# EAGLE library part M32C/83(100P6Q-A) (library renesas_mcu)
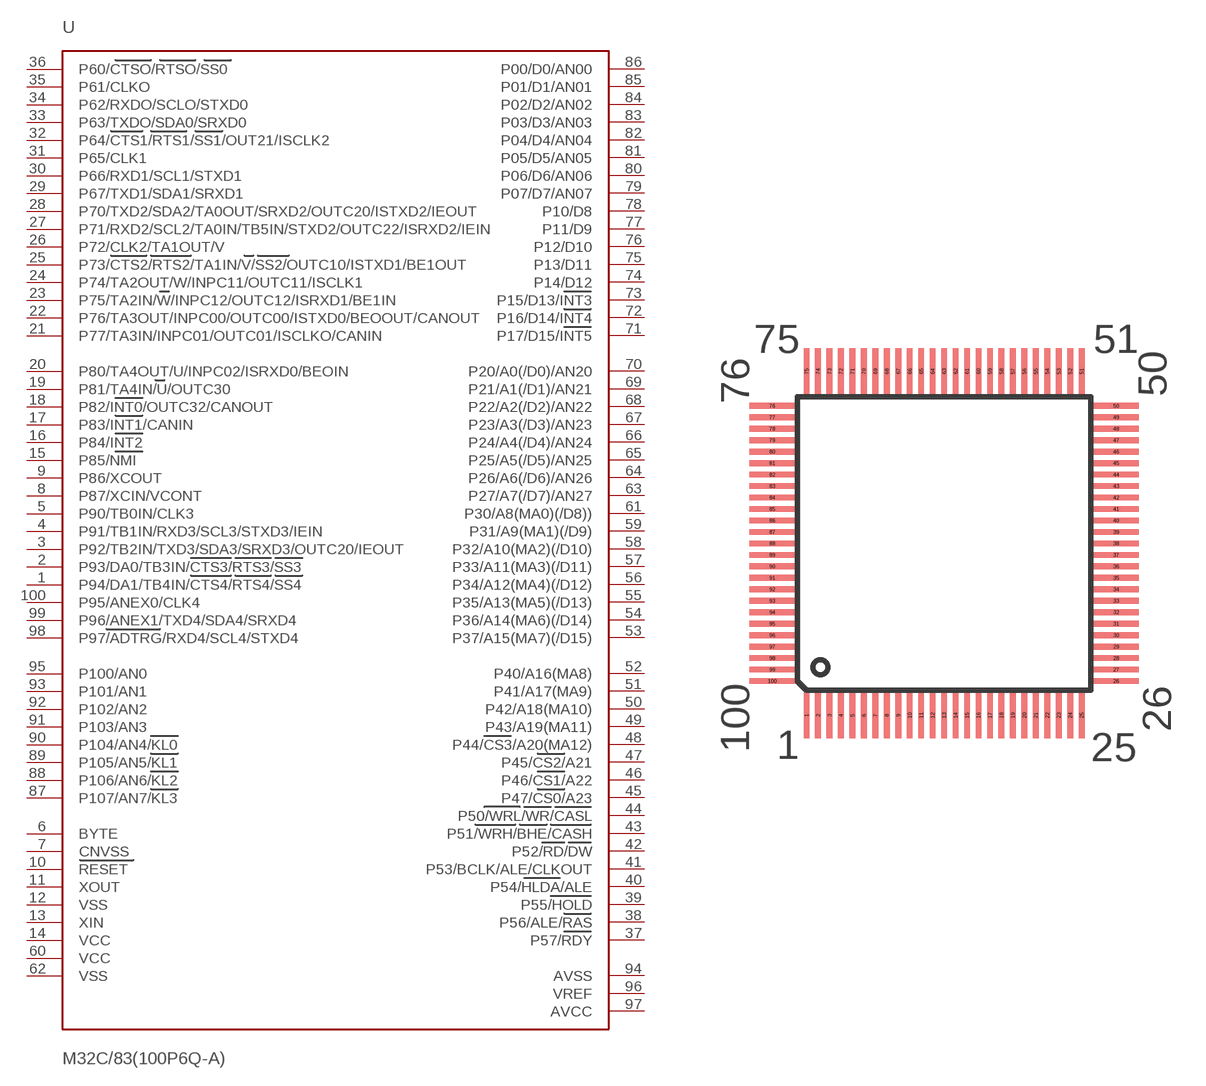
[diagram p10: symbol with the pads of 100P6Q-A; footprint 100P6Q-A]

Designator prefix -

## M32C/83(100P6Q-A)1  [100P6Q-A]
1  P94/DA1/TB4IN/CTS4/RTS4/SS4
2  P93/DA0/TB3IN/CTS3/RTS3/SS3
3  P92/TB2IN/TXD3/SDA3/SRXD3/OUTC20/IEOUT
4  P91/TB1IN/RXD3/SCL3/STXD3/IEIN
5  P90/TB0IN/CLK3
6  BYTE  in
7  CNVSS  in
8  P87/XCIN/VCONT
9  P86/XCOUT
10  RESET  in
11  XOUT  out
12  VSS  pwr
13  XIN  in
14  VCC  pwr
15  P85/NMI  in
16  P84/INT2
17  P83/INT1/CANIN
18  P82/INT0/OUTC32/CANOUT
19  P81/TA4IN/U/OUTC30
20  P80/TA4OUT/U/INPC02/ISRXD0/BEOIN
21  P77/TA3IN/INPC01/OUTC01/ISCLKO/CANIN
22  P76/TA3OUT/INPC00/OUTC00/ISTXD0/BEOOUT/CANOUT
23  P75/TA2IN/W/INPC12/OUTC12/ISRXD1/BE1IN
24  P74/TA2OUT/W/INPC11/OUTC11/ISCLK1
25  P73/CTS2/RTS2/TA1IN/V/SS2/OUTC10/ISTXD1/BE1OUT
26  P72/CLK2/TA1OUT/V
27  P71/RXD2/SCL2/TA0IN/TB5IN/STXD2/OUTC22/ISRXD2/IEIN
28  P70/TXD2/SDA2/TA0OUT/SRXD2/OUTC20/ISTXD2/IEOUT
29  P67/TXD1/SDA1/SRXD1
30  P66/RXD1/SCL1/STXD1
31  P65/CLK1
32  P64/CTS1/RTS1/SS1/OUT21/ISCLK2
33  P63/TXDO/SDA0/SRXD0
34  P62/RXDO/SCLO/STXD0
35  P61/CLKO
36  P60/CTSO/RTSO/SS0
37  P57/RDY
38  P56/ALE/RAS
39  P55/HOLD
40  P54/HLDA/ALE
41  P53/BCLK/ALE/CLKOUT
42  P52/RD/DW
43  P51/WRH/BHE/CASH
44  P50/WRL/WR/CASL
45  P47/CS0/A23
46  P46/CS1/A22
47  P45/CS2/A21
48  P44/CS3/A20(MA12)
49  P43/A19(MA11)
50  P42/A18(MA10)
51  P41/A17(MA9)
52  P40/A16(MA8)
53  P37/A15(MA7)(/D15)
54  P36/A14(MA6)(/D14)
55  P35/A13(MA5)(/D13)
56  P34/A12(MA4)(/D12)
57  P33/A11(MA3)(/D11)
58  P32/A10(MA2)(/D10)
59  P31/A9(MA1)(/D9)
60  VCC  pwr
61  P30/A8(MA0)(/D8))
62  VSS  pwr
63  P27/A7(/D7)/AN27
64  P26/A6(/D6)/AN26
65  P25/A5(/D5)/AN25
66  P24/A4(/D4)/AN24
67  P23/A3(/D3)/AN23
68  P22/A2(/D2)/AN22
69  P21/A1(/D1)/AN21
70  P20/A0(/D0)/AN20
71  P17/D15/INT5
72  P16/D14/INT4
73  P15/D13/INT3
74  P14/D12
75  P13/D11
76  P12/D10
77  P11/D9
78  P10/D8
79  P07/D7/AN07
80  P06/D6/AN06
81  P05/D5/AN05
82  P04/D4/AN04
83  P03/D3/AN03
84  P02/D2/AN02
85  P01/D1/AN01
86  P00/D0/AN00
87  P107/AN7/KL3
88  P106/AN6/KL2
89  P105/AN5/KL1
90  P104/AN4/KL0
91  P103/AN3
92  P102/AN2
93  P101/AN1
94  AVSS  in
95  P100/AN0
96  VREF  in
97  AVCC  in
98  P97/ADTRG/RXD4/SCL4/STXD4
99  P96/ANEX1/TXD4/SDA4/SRXD4
100  P95/ANEX0/CLK4

## Footprint 100P6Q-A (pad centres in mm)
smd 0.25 x 2: 1 -6,-7.5; 2 -5.5,-7.5; 3 -5,-7.5; 4 -4.5,-7.5; 5 -4,-7.5; 6 -3.5,-7.5; 7 -3,-7.5; 8 -2.5,-7.5; 9 -2,-7.5; 10 -1.5,-7.5; 11 -1,-7.5; 12 -0.5,-7.5; 13 0,-7.5; 14 0.5,-7.5; 15 1,-7.5; 16 1.5,-7.5; 17 2,-7.5; 18 2.5,-7.5; 19 3,-7.5; 20 3.5,-7.5; 21 4,-7.5; 22 4.5,-7.5; 23 5,-7.5; 24 5.5,-7.5; 25 6,-7.5; 51 6,7.5; 52 5.5,7.5; 53 5,7.5; 54 4.5,7.5; 55 4,7.5; 56 3.5,7.5; 57 3,7.5; 58 2.5,7.5; 59 2,7.5; 60 1.5,7.5; 61 1,7.5; 62 0.5,7.5; 63 0,7.5; 64 -0.5,7.5; 65 -1,7.5; 66 -1.5,7.5; 67 -2,7.5; 68 -2.5,7.5; 69 -3,7.5; 70 -3.5,7.5; 71 -4,7.5; 72 -4.5,7.5; 73 -5,7.5; 74 -5.5,7.5; 75 -6,7.5
smd 2 x 0.25: 26 7.5,-6; 27 7.5,-5.5; 28 7.5,-5; 29 7.5,-4.5; 30 7.5,-4; 31 7.5,-3.5; 32 7.5,-3; 33 7.5,-2.5; 34 7.5,-2; 35 7.5,-1.5; 36 7.5,-1; 37 7.5,-0.5; 38 7.5,0; 39 7.5,0.5; 40 7.5,1; 41 7.5,1.5; 42 7.5,2; 43 7.5,2.5; 44 7.5,3; 45 7.5,3.5; 46 7.5,4; 47 7.5,4.5; 48 7.5,5; 49 7.5,5.5; 50 7.5,6; 76 -7.5,6; 77 -7.5,5.5; 78 -7.5,5; 79 -7.5,4.5; 80 -7.5,4; 81 -7.5,3.5; 82 -7.5,3; 83 -7.5,2.5; 84 -7.5,2; 85 -7.5,1.5; 86 -7.5,1; 87 -7.5,0.5; 88 -7.5,0; 89 -7.5,-0.5; 90 -7.5,-1; 91 -7.5,-1.5; 92 -7.5,-2; 93 -7.5,-2.5; 94 -7.5,-3; 95 -7.5,-3.5; 96 -7.5,-4; 97 -7.5,-4.5; 98 -7.5,-5; 99 -7.5,-5.5; 100 -7.5,-6